# EAGLE library part ETRAX_LX100_MCM (library axis)
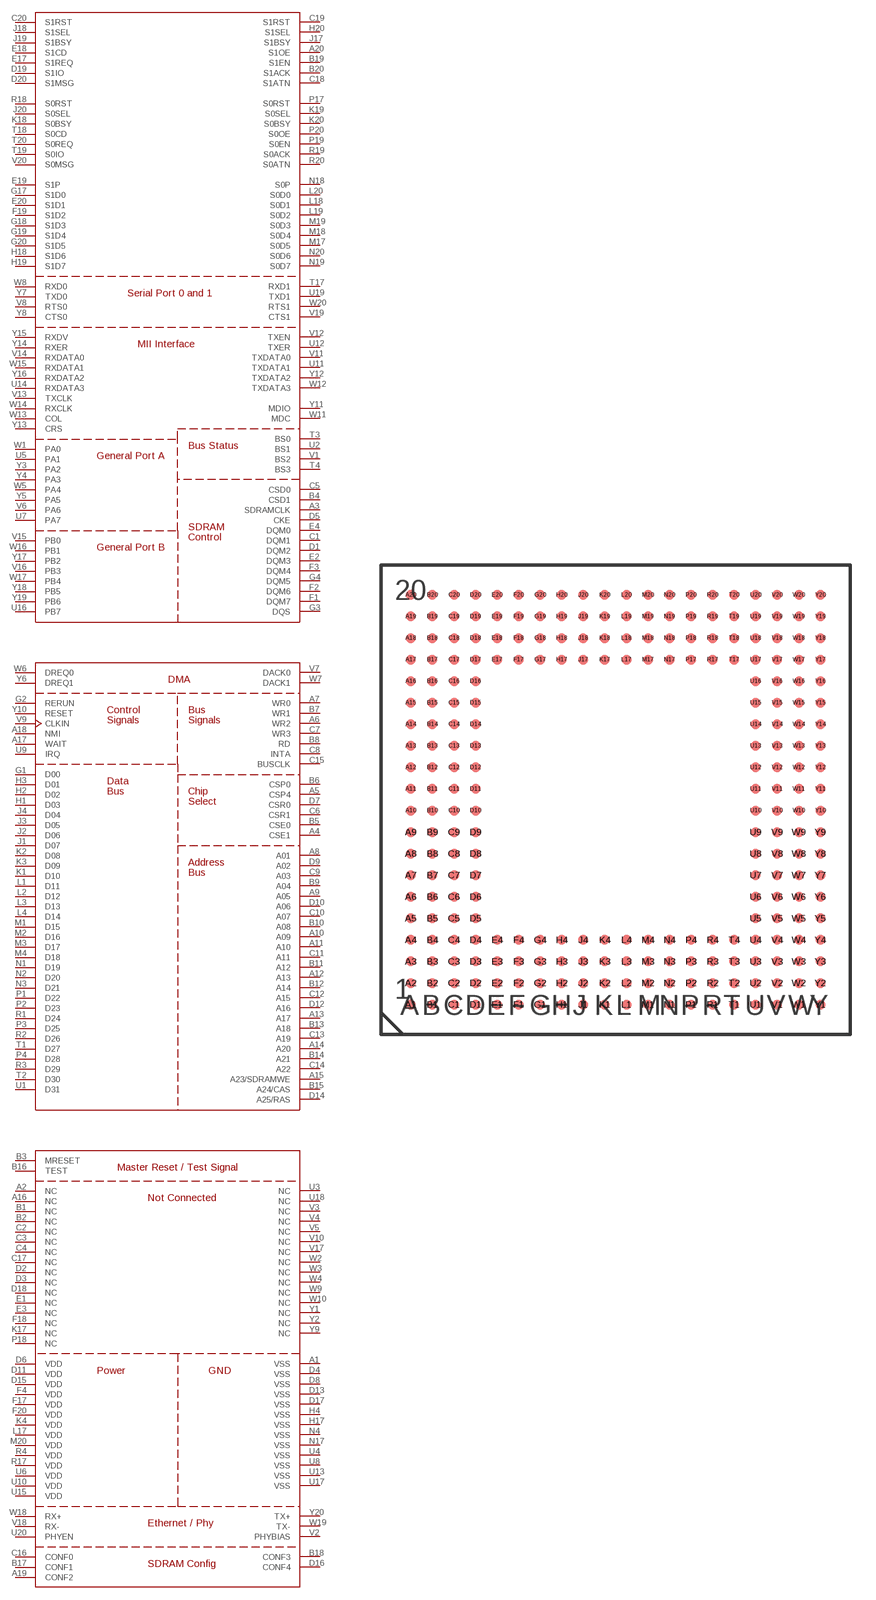
[diagram p1: symbol with the pads of BGA256; footprint BGA256]

Designator prefix -; gates G$1=ETRAX_LX100_MCM_1 G$2=ETRAX_LX100_MCM_2 G$3=ETRAX_LX100_MCM_3

## ETRAX_LX100_MCM  [BGA256]
A1  G$3:VSS  pwr
A2  G$3:NC  nc
A3  G$1:SDRAMCLK  out
A4  G$2:CSE1  out
A5  G$2:CSP4  out
A6  G$2:WR2  out
A7  G$2:WR0  out
A8  G$2:A01  out
A9  G$2:A05  out
A10  G$2:A09  out
A11  G$2:A10  out
A12  G$2:A13  out
A13  G$2:A17  out
A14  G$2:A20  out
A15  G$2:A23/SDRAMWE  out
A16  G$3:NC  nc
A17  G$2:WAIT
A18  G$2:NMI
A19  G$3:CONF2
A20  G$1:S1OE
B1  G$3:NC  nc
B2  G$3:NC  nc
B3  G$3:MRESET
B4  G$1:CSD1  out
B5  G$2:CSE0  out
B6  G$2:CSP0  out
B7  G$2:WR1  out
B8  G$2:RD  out
B9  G$2:A04  out
B10  G$2:A08  out
B11  G$2:A12  out
B12  G$2:A14  out
B13  G$2:A18  out
B14  G$2:A21  out
B15  G$2:A24/CAS  out
B16  G$3:TEST
B17  G$3:CONF1
B18  G$3:CONF3
B19  G$1:S1EN
B20  G$1:S1ACK
C1  G$1:DQM1  out
C2  G$3:NC  nc
C3  G$3:NC  nc
C4  G$3:NC  nc
C5  G$1:CSD0  out
C6  G$2:CSR1  out
C7  G$2:WR3  out
C8  G$2:INTA  out
C9  G$2:A03  out
C10  G$2:A07  out
C11  G$2:A11  out
C12  G$2:A15  out
C13  G$2:A19  out
C14  G$2:A22  out
C15  G$2:BUSCLK  out
C16  G$3:CONF0
C17  G$3:NC  nc
C18  G$1:S1ATN
C19  G$1:S1RST
C20  G$1:S1RST
D1  G$1:DQM2  out
D2  G$3:NC  nc
D3  G$3:NC  nc
D4  G$3:VSS  pwr
D5  G$1:CKE  out
D6  G$3:VDD  pwr
D7  G$2:CSR0  out
D8  G$3:VSS  pwr
D9  G$2:A02  out
D10  G$2:A06  out
D11  G$3:VDD  pwr
D12  G$2:A16  out
D13  G$3:VSS  pwr
D14  G$2:A25/RAS  out
D15  G$3:VDD  pwr
D16  G$3:CONF4
D17  G$3:VSS  pwr
D18  G$3:NC  nc
D19  G$1:S1IO
D20  G$1:S1MSG
E1  G$3:NC  nc
E2  G$1:DQM3  out
E3  G$3:NC  nc
E4  G$1:DQM0  out
E17  G$1:S1REQ
E18  G$1:S1CD
E19  G$1:S1P
E20  G$1:S1D1
F1  G$1:DQM7  out
F2  G$1:DQM6  out
F3  G$1:DQM4  out
F4  G$3:VDD  pwr
F17  G$3:VDD  pwr
F18  G$3:NC  nc
F19  G$1:S1D2
F20  G$3:VDD  pwr
G1  G$2:D00
G2  G$2:RERUN
G3  G$1:DQS  out
G4  G$1:DQM5  out
G17  G$1:S1D0
G18  G$1:S1D3
G19  G$1:S1D4
G20  G$1:S1D5
H1  G$2:D03
H2  G$2:D02
H3  G$2:D01
H4  G$3:VSS  pwr
H17  G$3:VSS  pwr
H18  G$1:S1D6
H19  G$1:S1D7
H20  G$1:S1SEL
J1  G$2:D07
J2  G$2:D06
J3  G$2:D05
J4  G$2:D04
J17  G$1:S1BSY
J18  G$1:S1SEL
J19  G$1:S1BSY
J20  G$1:S0SEL
K1  G$2:D10
K2  G$2:D08
K3  G$2:D09
K4  G$3:VDD  pwr
K17  G$3:NC  nc
K18  G$1:S0BSY
K19  G$1:S0SEL
K20  G$1:S0BSY
L1  G$2:D11
L2  G$2:D12
L3  G$2:D13
L4  G$2:D14
L17  G$3:VDD  pwr
L18  G$1:S0D1
L19  G$1:S0D2
L20  G$1:S0D0
M1  G$2:D15
M2  G$2:D16
M3  G$2:D17
M4  G$2:D18
M17  G$1:S0D5
M18  G$1:S0D4
M19  G$1:S0D3
M20  G$3:VDD  pwr
N1  G$2:D19
N2  G$2:D20
N3  G$2:D21
N4  G$3:VSS  pwr
N17  G$3:VSS  pwr
N18  G$1:S0P
N19  G$1:S0D7
N20  G$1:S0D6
P1  G$2:D22
P2  G$2:D23
P3  G$2:D25
P4  G$2:D28
P17  G$1:S0RST
P18  G$3:NC  nc
P19  G$1:S0EN
P20  G$1:S0OE
R1  G$2:D24
R2  G$2:D26
R3  G$2:D29
R4  G$3:VDD  pwr
R17  G$3:VDD  pwr
R18  G$1:S0RST
R19  G$1:S0ACK
R20  G$1:S0ATN
T1  G$2:D27
T2  G$2:D30
T3  G$1:BS0
T4  G$1:BS3
T17  G$1:RXD1
T18  G$1:S0CD
T19  G$1:S0IO
T20  G$1:S0REQ
U1  G$2:D31
U2  G$1:BS1
U3  G$3:NC  nc
U4  G$3:VSS  pwr
U5  G$1:PA1
U6  G$3:VDD  pwr
U7  G$1:PA7
U8  G$3:VSS  pwr
U9  G$2:IRQ
U10  G$3:VDD  pwr
U11  G$1:TXDATA1  out
U12  G$1:TXER  out
U13  G$3:VSS  pwr
U14  G$1:RXDATA3
U15  G$3:VDD  pwr
U16  G$1:PB7
U17  G$3:VSS  pwr
U18  G$3:NC  nc
U19  G$1:TXD1  out
U20  G$3:PHYEN
V1  G$1:BS2
V2  G$3:PHYBIAS
V3  G$3:NC  nc
V4  G$3:NC  nc
V5  G$3:NC  nc
V6  G$1:PA6
V7  G$2:DACK0  out
V8  G$1:RTS0  out
V9  G$2:CLKIN
V10  G$3:NC  nc
V11  G$1:TXDATA0  out
V12  G$1:TXEN  out
V13  G$1:TXCLK
V14  G$1:RXDATA0
V15  G$1:PB0
V16  G$1:PB3
V17  G$3:NC  nc
V18  G$3:RX-
V19  G$1:CTS1
V20  G$1:S0MSG
W1  G$1:PA0
W2  G$3:NC  nc
W3  G$3:NC  nc
W4  G$3:NC  nc
W5  G$1:PA4
W6  G$2:DREQ0
W7  G$2:DACK1  out
W8  G$1:RXD0
W9  G$3:NC  nc
W10  G$3:NC  nc
W11  G$1:MDC  out
W12  G$1:TXDATA3  out
W13  G$1:COL
W14  G$1:RXCLK
W15  G$1:RXDATA1
W16  G$1:PB1
W17  G$1:PB4
W18  G$3:RX+
W19  G$3:TX-
W20  G$1:RTS1  out
Y1  G$3:NC  nc
Y2  G$3:NC  nc
Y3  G$1:PA2
Y4  G$1:PA3
Y5  G$1:PA5
Y6  G$2:DREQ1
Y7  G$1:TXD0  out
Y8  G$1:CTS0
Y9  G$3:NC  nc
Y10  G$2:RESET
Y11  G$1:MDIO
Y12  G$1:TXDATA2  out
Y13  G$1:CRS
Y14  G$1:RXER
Y15  G$1:RXDV
Y16  G$1:RXDATA2
Y17  G$1:PB2
Y18  G$1:PB5
Y19  G$1:PB6
Y20  G$3:TX+

## Footprint BGA256 (pad centres in mm)
BGA256
smd 0.584 x 0.584: A1 -12.065,-12.065; A2 -12.065,-10.795; A3 -12.065,-9.525; A4 -12.065,-8.255; A5 -12.065,-6.985; A6 -12.065,-5.715; A7 -12.065,-4.445; A8 -12.065,-3.175; A9 -12.065,-1.905; A10 -12.065,-0.635; A11 -12.065,0.635; A12 -12.065,1.905; A13 -12.065,3.175; A14 -12.065,4.445; A15 -12.065,5.715; A16 -12.065,6.985; A17 -12.065,8.255; A18 -12.065,9.525; A19 -12.065,10.795; A20 -12.065,12.065; B1 -10.795,-12.065; B2 -10.795,-10.795; B3 -10.795,-9.525; B4 -10.795,-8.255; B5 -10.795,-6.985; B6 -10.795,-5.715; B7 -10.795,-4.445; B8 -10.795,-3.175; B9 -10.795,-1.905; B10 -10.795,-0.635; B11 -10.795,0.635; B12 -10.795,1.905; B13 -10.795,3.175; B14 -10.795,4.445; B15 -10.795,5.715; B16 -10.795,6.985; B17 -10.795,8.255; B18 -10.795,9.525; B19 -10.795,10.795; B20 -10.795,12.065; C1 -9.525,-12.065; C2 -9.525,-10.795; C3 -9.525,-9.525; C4 -9.525,-8.255; C5 -9.525,-6.985; C6 -9.525,-5.715; C7 -9.525,-4.445; C8 -9.525,-3.175; C9 -9.525,-1.905; C10 -9.525,-0.635; C11 -9.525,0.635; C12 -9.525,1.905; C13 -9.525,3.175; C14 -9.525,4.445; C15 -9.525,5.715; C16 -9.525,6.985; C17 -9.525,8.255; C18 -9.525,9.525; C19 -9.525,10.795; C20 -9.525,12.065; D1 -8.255,-12.065; D2 -8.255,-10.795; D3 -8.255,-9.525; D4 -8.255,-8.255; D5 -8.255,-6.985; D6 -8.255,-5.715; D7 -8.255,-4.445; D8 -8.255,-3.175; D9 -8.255,-1.905; D10 -8.255,-0.635; D11 -8.255,0.635; D12 -8.255,1.905; D13 -8.255,3.175; D14 -8.255,4.445; D15 -8.255,5.715; D16 -8.255,6.985; D17 -8.255,8.255; D18 -8.255,9.525; D19 -8.255,10.795; D20 -8.255,12.065; E1 -6.985,-12.065; E2 -6.985,-10.795; E3 -6.985,-9.525; E4 -6.985,-8.255; E17 -6.985,8.255; E18 -6.985,9.525; E19 -6.985,10.795; E20 -6.985,12.065; F1 -5.715,-12.065; F2 -5.715,-10.795; F3 -5.715,-9.525; F4 -5.715,-8.255; F17 -5.715,8.255; F18 -5.715,9.525; F19 -5.715,10.795; F20 -5.715,12.065; G1 -4.445,-12.065; G2 -4.445,-10.795; G3 -4.445,-9.525; G4 -4.445,-8.255; G17 -4.445,8.255; G18 -4.445,9.525; G19 -4.445,10.795; G20 -4.445,12.065; H1 -3.175,-12.065; H2 -3.175,-10.795; H3 -3.175,-9.525; H4 -3.175,-8.255; H17 -3.175,8.255; H18 -3.175,9.525; H19 -3.175,10.795; H20 -3.175,12.065; J1 -1.905,-12.065; J2 -1.905,-10.795; J3 -1.905,-9.525; J4 -1.905,-8.255; J17 -1.905,8.255; J18 -1.905,9.525; J19 -1.905,10.795; J20 -1.905,12.065; K1 -0.635,-12.065; K2 -0.635,-10.795; K3 -0.635,-9.525; K4 -0.635,-8.255; K17 -0.635,8.255; K18 -0.635,9.525; K19 -0.635,10.795; K20 -0.635,12.065; L1 0.635,-12.065; L2 0.635,-10.795; L3 0.635,-9.525; L4 0.635,-8.255; L17 0.635,8.255; L18 0.635,9.525; L19 0.635,10.795; L20 0.635,12.065; M1 1.905,-12.065; M2 1.905,-10.795; M3 1.905,-9.525; M4 1.905,-8.255; M17 1.905,8.255; M18 1.905,9.525; M19 1.905,10.795; M20 1.905,12.065; N1 3.175,-12.065; N2 3.175,-10.795; N3 3.175,-9.525; N4 3.175,-8.255; N17 3.175,8.255; N18 3.175,9.525; N19 3.175,10.795; N20 3.175,12.065; P1 4.445,-12.065; P2 4.445,-10.795; P3 4.445,-9.525; P4 4.445,-8.255; P17 4.445,8.255; P18 4.445,9.525; P19 4.445,10.795; P20 4.445,12.065; R1 5.715,-12.065; R2 5.715,-10.795; R3 5.715,-9.525; R4 5.715,-8.255; R17 5.715,8.255; R18 5.715,9.525; R19 5.715,10.795; R20 5.715,12.065; T1 6.985,-12.065; T2 6.985,-10.795; T3 6.985,-9.525; T4 6.985,-8.255; T17 6.985,8.255; T18 6.985,9.525; T19 6.985,10.795; T20 6.985,12.065; U1 8.255,-12.065; U2 8.255,-10.795; U3 8.255,-9.525; U4 8.255,-8.255; U5 8.255,-6.985; U6 8.255,-5.715; U7 8.255,-4.445; U8 8.255,-3.175; U9 8.255,-1.905; U10 8.255,-0.635; U11 8.255,0.635; U12 8.255,1.905; U13 8.255,3.175; U14 8.255,4.445; U15 8.255,5.715; U16 8.255,6.985; U17 8.255,8.255; U18 8.255,9.525; U19 8.255,10.795; U20 8.255,12.065; V1 9.525,-12.065; V2 9.525,-10.795; V3 9.525,-9.525; V4 9.525,-8.255; V5 9.525,-6.985; V6 9.525,-5.715; V7 9.525,-4.445; V8 9.525,-3.175; V9 9.525,-1.905; V10 9.525,-0.635; V11 9.525,0.635; V12 9.525,1.905; V13 9.525,3.175; V14 9.525,4.445; V15 9.525,5.715; V16 9.525,6.985; V17 9.525,8.255; V18 9.525,9.525; V19 9.525,10.795; V20 9.525,12.065; W1 10.795,-12.065; W2 10.795,-10.795; W3 10.795,-9.525; W4 10.795,-8.255; W5 10.795,-6.985; W6 10.795,-5.715; W7 10.795,-4.445; W8 10.795,-3.175; W9 10.795,-1.905; W10 10.795,-0.635; W11 10.795,0.635; W12 10.795,1.905; W13 10.795,3.175; W14 10.795,4.445; W15 10.795,5.715; W16 10.795,6.985; W17 10.795,8.255; W18 10.795,9.525; W19 10.795,10.795; W20 10.795,12.065; Y1 12.065,-12.065; Y2 12.065,-10.795; Y3 12.065,-9.525; Y4 12.065,-8.255; Y5 12.065,-6.985; Y6 12.065,-5.715; Y7 12.065,-4.445; Y8 12.065,-3.175; Y9 12.065,-1.905; Y10 12.065,-0.635; Y11 12.065,0.635; Y12 12.065,1.905; Y13 12.065,3.175; Y14 12.065,4.445; Y15 12.065,5.715; Y16 12.065,6.985; Y17 12.065,8.255; Y18 12.065,9.525; Y19 12.065,10.795; Y20 12.065,12.065